# EAGLE library part TSW-D-78 (library con-samtec-tsw)
HEADER
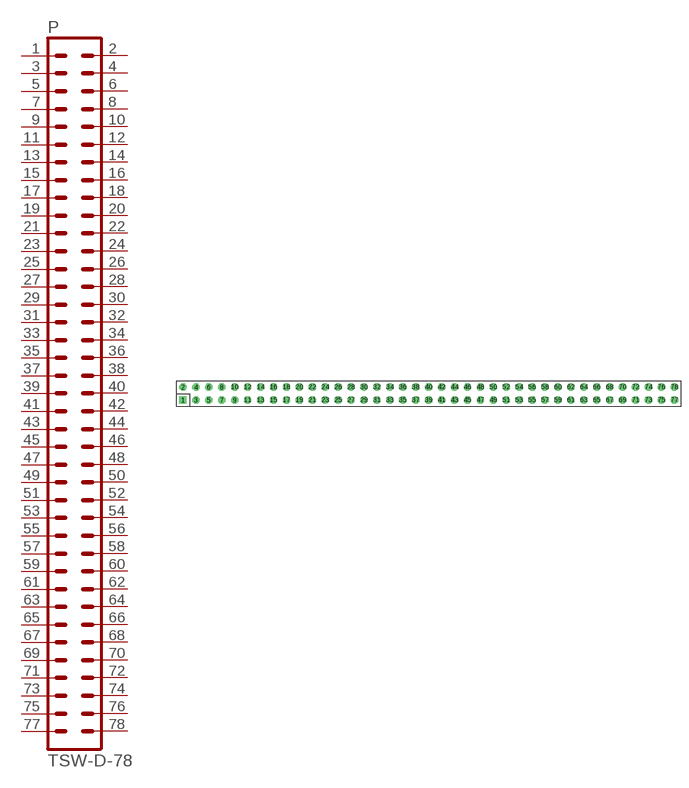
[diagram p126: symbol with the pads of TSW-D-78; footprint TSW-D-78]

Designator prefix P

## TSW-D-78  [TSW-D-78]
1  1  pas
2  2  pas
3  3  pas
4  4  pas
5  5  pas
6  6  pas
7  7  pas
8  8  pas
9  9  pas
10  10  pas
11  11  pas
12  12  pas
13  13  pas
14  14  pas
15  15  pas
16  16  pas
17  17  pas
18  18  pas
19  19  pas
20  20  pas
21  21  pas
22  22  pas
23  23  pas
24  24  pas
25  25  pas
26  26  pas
27  27  pas
28  28  pas
29  29  pas
30  30  pas
31  31  pas
32  32  pas
33  33  pas
34  34  pas
35  35  pas
36  36  pas
37  37  pas
38  38  pas
39  39  pas
40  40  pas
41  41  pas
42  42  pas
43  43  pas
44  44  pas
45  45  pas
46  46  pas
47  47  pas
48  48  pas
49  49  pas
50  50  pas
51  51  pas
52  52  pas
53  53  pas
54  54  pas
55  55  pas
56  56  pas
57  57  pas
58  58  pas
59  59  pas
60  60  pas
61  61  pas
62  62  pas
63  63  pas
64  64  pas
65  65  pas
66  66  pas
67  67  pas
68  68  pas
69  69  pas
70  70  pas
71  71  pas
72  72  pas
73  73  pas
74  74  pas
75  75  pas
76  76  pas
77  77  pas
78  78  pas

## Footprint TSW-D-78 (pad centres in mm)
HEADER
drill 0.914 square: 1 -48.26,-1.27
drill 0.914 octagon: 2 -48.26,1.27; 3 -45.72,-1.27; 4 -45.72,1.27; 5 -43.18,-1.27; 6 -43.18,1.27; 7 -40.64,-1.27; 8 -40.64,1.27; 9 -38.1,-1.27; 10 -38.1,1.27; 11 -35.56,-1.27; 12 -35.56,1.27; 13 -33.02,-1.27; 14 -33.02,1.27; 15 -30.48,-1.27; 16 -30.48,1.27; 17 -27.94,-1.27; 18 -27.94,1.27; 19 -25.4,-1.27; 20 -25.4,1.27; 21 -22.86,-1.27; 22 -22.86,1.27; 23 -20.32,-1.27; 24 -20.32,1.27; 25 -17.78,-1.27; 26 -17.78,1.27; 27 -15.24,-1.27; 28 -15.24,1.27; 29 -12.7,-1.27; 30 -12.7,1.27; 31 -10.16,-1.27; 32 -10.16,1.27; 33 -7.62,-1.27; 34 -7.62,1.27; 35 -5.08,-1.27; 36 -5.08,1.27; 37 -2.54,-1.27; 38 -2.54,1.27; 39 0,-1.27; 40 0,1.27; 41 2.54,-1.27; 42 2.54,1.27; 43 5.08,-1.27; 44 5.08,1.27; 45 7.62,-1.27; 46 7.62,1.27; 47 10.16,-1.27; 48 10.16,1.27; 49 12.7,-1.27; 50 12.7,1.27; 51 15.24,-1.27; 52 15.24,1.27; 53 17.78,-1.27; 54 17.78,1.27; 55 20.32,-1.27; 56 20.32,1.27; 57 22.86,-1.27; 58 22.86,1.27; 59 25.4,-1.27; 60 25.4,1.27; 61 27.94,-1.27; 62 27.94,1.27; 63 30.48,-1.27; 64 30.48,1.27; 65 33.02,-1.27; 66 33.02,1.27; 67 35.56,-1.27; 68 35.56,1.27; 69 38.1,-1.27; 70 38.1,1.27; 71 40.64,-1.27; 72 40.64,1.27; 73 43.18,-1.27; 74 43.18,1.27; 75 45.72,-1.27; 76 45.72,1.27; 77 48.26,-1.27; 78 48.26,1.27